# Altium integrated library TI Data Converters Analog to Digital Converter.IntLib: 2198 symbols (part 128 of 164)
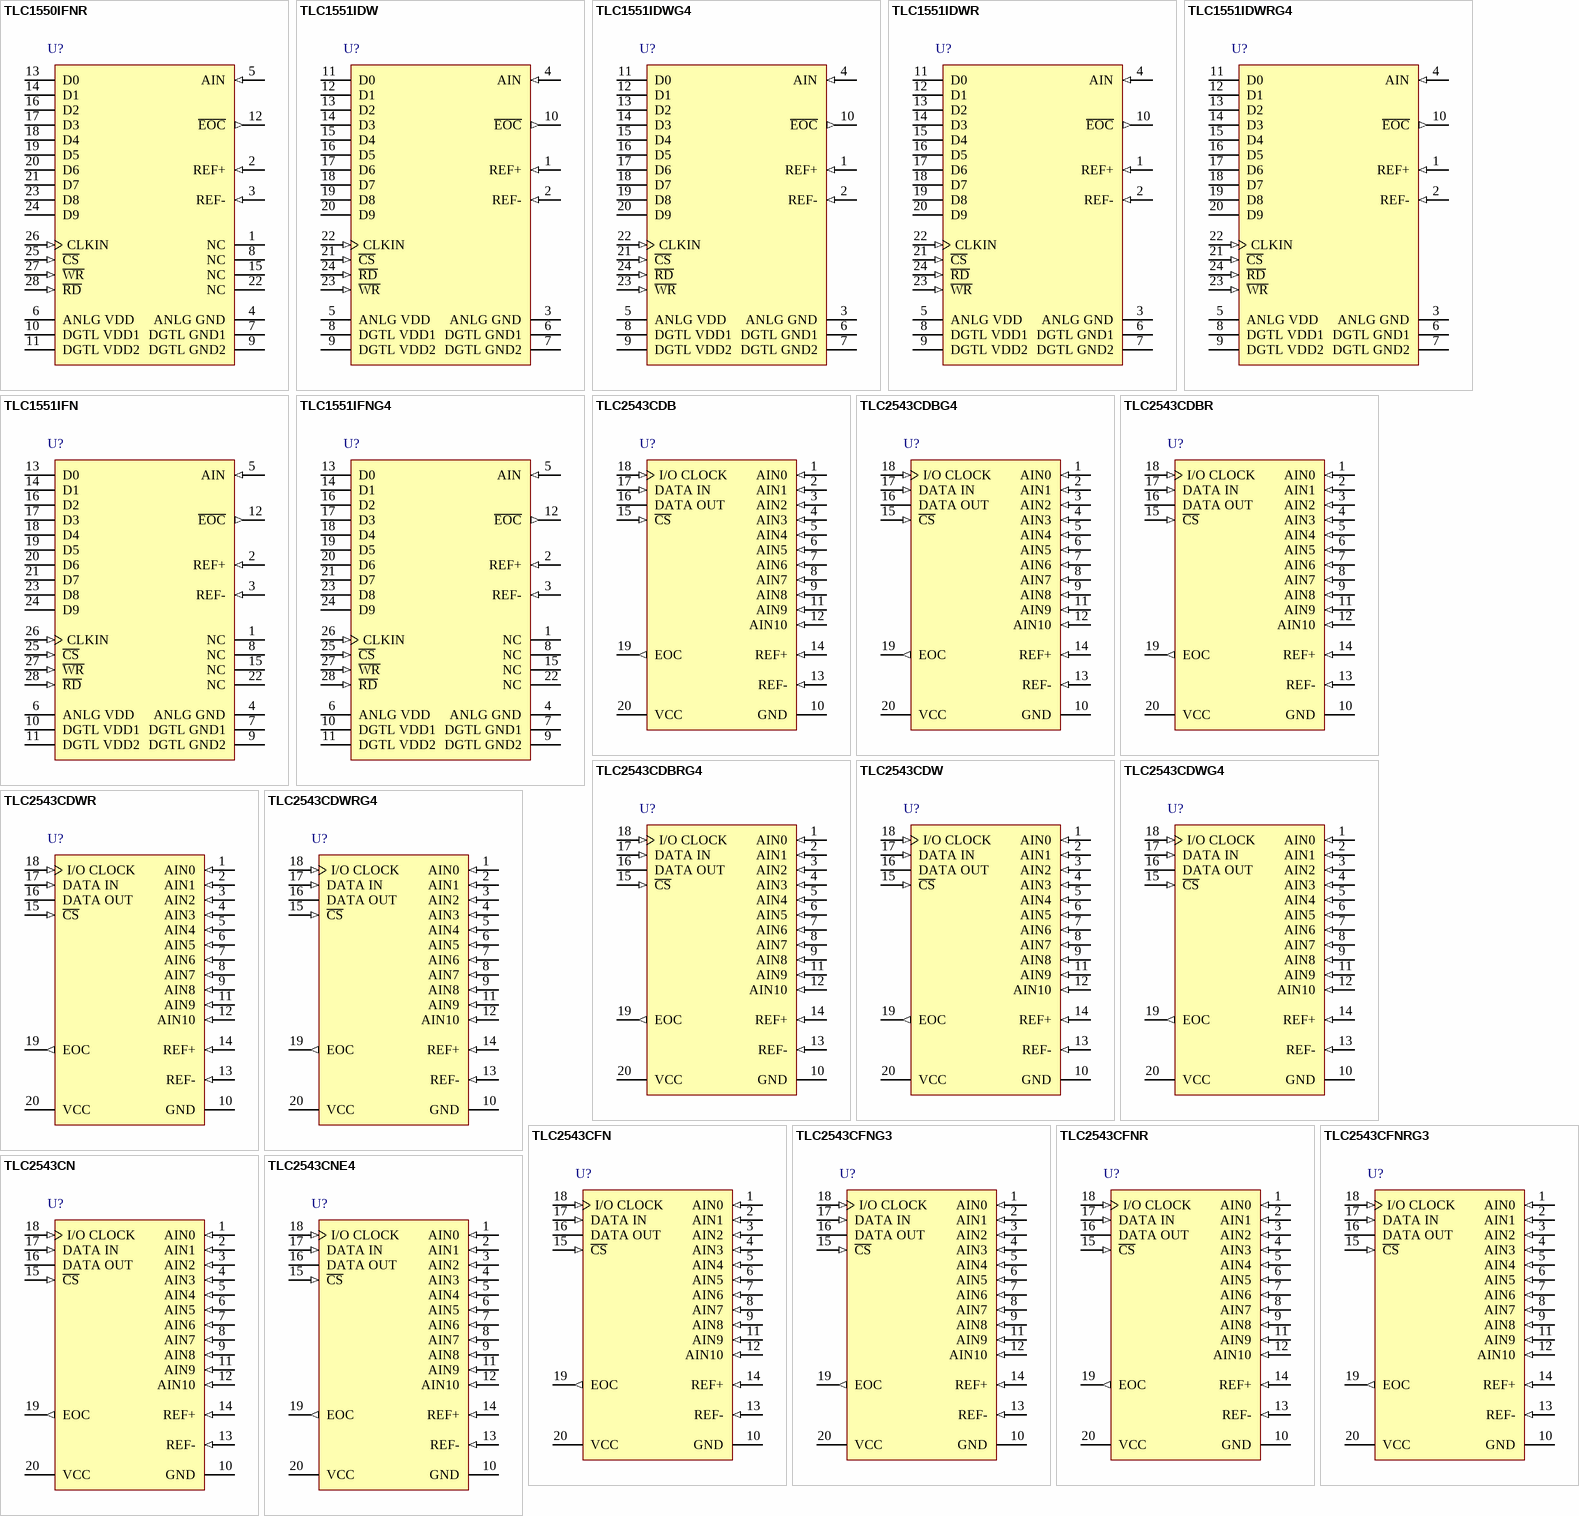
[diagram p253: symbols TLC1550IFNR to TLC2543CNE4]

## TLC1551IDWRG4
designator U?
10-Bit, 164 kSPS ADC Parallel Out, Direct I/F to DSP / uProcessor, 10 Channel, -40 to 85 degC, 24-pin SOIC (DW24), Green (RoHS & no Sb/Br); Manufacturer: Texas Instruments; PartNumber: TLC1551IDWRG4; # Input Channels: 1; Analog Voltage AV/DD(Max)(V): 5.5; Analog Voltage AV/DD(Min)(V): 4.75; Architecture: SAR; Interface: Parallel CMOS; Resolution(Bits): 10; Sample Rate (max)(SPS): 164k; SubFamily: Precision ADC (<=10MSPS); DatasheetVersion: SLAS043G; PackageVersion: 4040000-5/G, 01/2011; PackageReference: DW24; PackageDescription: 24-Pin Plastic Small Outline, Body 15.4 x 7.5 mm, Pitch 1.27 mm; Supplier 1: Digi-Key; Supplier Part Number 1: 296-24464-5-ND; Digital Supply(Max)(V): 5.5; Digital Supply(Min)(V): 4.75; Eco-Plan: Green (RoHS & no Sb/Br); INL(Max)(+/-LSB): 1; Mounting Technology: Surface Mount; Code_JEDEC: MS-013; ComponentLink1Description: Manufacturer URL; ComponentLink1URL: http://www.ti.com/; ComponentLink2Description: Datasheet; ComponentLink2URL: http://www.ti.com/general/docs/lit/getliterature.tsp?genericPartNumber=TLC1551&fileType=pdf; ComponentLink3Description: Package Specification; ComponentLink3URL: http://www.ti.com/litv/pdf/mpds174a
footprint TI-DW24_N (SOIC, 24-Leads, Body 15.4x7.5mm, Pitch 1.27mm, IPC Medium Density)
footprint TI-DW24_L (SOIC, 24-Leads, Body 15.4x7.5mm, Pitch 1.27mm, IPC High Density)
footprint TI-DW24_M (SOIC, 24-Leads, Body 15.4x7.5mm, Pitch 1.27mm, IPC Low Density)
pins: 1 REF+ (in) "Positive voltage-reference input. Any analog input that is greater than or equal to the voltage on REF+ converts to 1111111111. Analog input voltages between REF+ and REF- convert to the appropriate result in a ratiometric (See Datasheet)", 2 REF- (in) "Negative voltage reference input. Any analog input that is less than or equal to the voltage on REF- converts to 0000000000.", 3 ANLG GND (power) "Analog ground. The reference point for the voltage applied on terminals ANLG VDD, AIN, REF+, and REF-.", 4 AIN (in) "Analog voltage input. The voltage applied to AIN is converted to the equivalent digital output.", 5 ANLG VDD (power) "Analog positive power supply voltage. The voltage applied to this terminal is designated VDD3.", 6 DGTL GND1 (power) "Digital ground 1. The ground for power supply DGTL VDD1 and is the substrate connection", 7 DGTL GND2 (power) "Digital ground 2. The ground for power supply DGTL VDD2", 8 DGTL VDD1 (power) "Digital positive power-supply voltage 1. DGTL VDD1 supplies the logic. The voltage applied to DGTL VDD1 is designated VDD1.", 9 DGTL VDD2 (power) "Digital positive power-supply voltage 2. DGTL VDD2 supplies only the higher-current output buffers. The voltage applied to DGTL VDD2 is designated VDD2.", 10 ~{EOC} (out) "End-of-conversion. E\O\C\ goes low indicating that conversion is complete and the results have been transferred to the output latch. E\O\C\ can be connected to the uP- or DSP-interrupt terminal or can be continuously polled", 11 D0 (hiz) "Data bus output. D0 is bit 1 (LSB).", 12 D1 (hiz) "Data bus output. D1 is bit 2.", 13 D2 (hiz) "Data bus output. D2 is bit 3.", 14 D3 (hiz) "Data bus output. D3 is bit 4.", 15 D4 (hiz) "Data bus output. D4 is bit 5.", 16 D5 (hiz) "Data bus output. D5 is bit 6.", 17 D6 (hiz) "Data bus output. D6 is bit 7.", 18 D7 (hiz) "Data bus output. D7 is bit 8.", 19 D8 (hiz) "Data bus output. D8 is bit 9.", 20 D9 (hiz) "Data bus output. D9 is bit 10 (MSB).", 21 ~{CS} (in) "Chip-select. C\S\ must be low for R\D\ or W\R\ to be recognized by the A/D converter.", 22 CLKIN (in) "Clock input. CLKIN is used for external clocking instead of using the internal system clock. It usually takes a few microseconds before the internal clock is disabled. To use the internal clock, CLKIN should be tied high or (See Datasheet)", 23 ~{WR} (in) "Write input. When C\S\ is low, conversion is started on the rising edge of W\R\. On this rising edge, the ADC holds the analog input until conversion is completed. Before and after the conversion period, which is given by (See Datasheet)", 24 ~{RD} (in) "Read input. When C\S\ is low and R\D\ is taken low, the data is placed on the data bus from the output latch. The output latch stores the conversion results at the most recent negative edge of E\O\C\. The falling edge of (See Datasheet)"

## TLC1551IFN
designator U?
10-Bit, 164 kSPS ADC Parallel Out, Direct I/F to DSP / uProcessor, 10 Channel, -40 to 85 degC, 28-pin PLCC (FN), Green (RoHS & no Sb/Br); Manufacturer: Texas Instruments; PartNumber: TLC1551IFN; # Input Channels: 1; Analog Voltage AV/DD(Max)(V): 5.5; Analog Voltage AV/DD(Min)(V): 4.75; Architecture: SAR; Interface: Parallel CMOS; Resolution(Bits): 10; Sample Rate (max)(SPS): 164k; SubFamily: Precision ADC (<=10MSPS); DatasheetVersion: SLAS043G; PackageReference: FN28; PackageDescription: 28-Pin Plastic Chip Carrier, Body 11.51 x 11.51 mm, Pitch 1.27 mm; Supplier 1: Digi-Key; Supplier Part Number 1: TLC1543QDBR-ND; Digital Supply(Max)(V): 5.5; Digital Supply(Min)(V): 4.75; Eco-Plan: Green (RoHS & no Sb/Br); INL(Max)(+/-LSB): 1; Mounting Technology: Surface Mount; Code_JEDEC: MS-013; ComponentLink1Description: Manufacturer URL; ComponentLink1URL: http://www.ti.com/; ComponentLink2Description: Datasheet; ComponentLink2URL: http://www.ti.com/general/docs/lit/getliterature.tsp?genericPartNumber=TLC1551&fileType=pdf; ComponentLink3Description: Package Specification; ComponentLink3URL: http://www.ti.com/lit/ml/mplc004a/mplc004a.pdf
footprint TI-FN28_N (PLCC, 28-Leads, Body 11.58x11.58mm, Pitch 1.27mm, IPC Medium Density)
footprint TI-FN28_L (PLCC, 28-Leads, Body 11.58x11.58mm, Pitch 1.27mm, IPC High Density)
footprint TI-FN28_M (PLCC, 28-Leads, Body 11.58x11.58mm, Pitch 1.27mm, IPC Low Density)
pins: 1 NC "No internal connection", 2 REF+ (in) "Positive voltage-reference input. Any analog input that is greater than or equal to the voltage on REF+ converts to 1111111111. Analog input voltages between REF+ and REF- convert to the appropriate result in a ratiometric (See Datasheet)", 3 REF- (in) "Negative voltage reference input. Any analog input that is less than or equal to the voltage on REF- converts to 0000000000.", 4 ANLG GND (power) "Analog ground. The reference point for the voltage applied on terminals ANLG VDD, AIN, REF+, and REF-.", 5 AIN (in) "Analog voltage input. The voltage applied to AIN is converted to the equivalent digital output.", 6 ANLG VDD (power) "Analog positive power supply voltage. The voltage applied to this terminal is designated VDD3.", 7 DGTL GND1 (power) "Digital ground 1. The ground for power supply DGTL VDD1 and is the substrate connection", 8 NC "No internal connection", 9 DGTL GND2 (power) "Digital ground 2. The ground for power supply DGTL VDD2", 10 DGTL VDD1 (power) "Digital positive power-supply voltage 1. DGTL VDD1 supplies the logic. The voltage applied to DGTL VDD1 is designated VDD1.", 11 DGTL VDD2 (power) "Digital positive power-supply voltage 2. DGTL VDD2 supplies only the higher-current output buffers. The voltage applied to DGTL VDD2 is designated VDD2.", 12 ~{EOC} (out) "End-of-conversion. E\O\C\ goes low indicating that conversion is complete and the results have been transferred to the output latch. E\O\C\ can be connected to the uP- or DSP-interrupt terminal or can be continuously polled", 13 D0 (hiz) "Data bus output. D0 is bit 1 (LSB).", 14 D1 (hiz) "Data bus output. D1 is bit 2.", 15 NC "No internal connection", 16 D2 (hiz) "Data bus output. D2 is bit 3.", 17 D3 (hiz) "Data bus output. D3 is bit 4.", 18 D4 (hiz) "Data bus output. D4 is bit 5.", 19 D5 (hiz) "Data bus output. D5 is bit 6.", 20 D6 (hiz) "Data bus output. D6 is bit 7.", 21 D7 (hiz) "Data bus output. D7 is bit 8.", 22 NC "No internal connection", 23 D8 (hiz) "Data bus output. D8 is bit 9.", 24 D9 (hiz) "Data bus output. D9 is bit 10 (MSB).", 25 ~{CS} (in) "Chip-select. C\S\ must be low for R\D\ or W\R\ to be recognized by the A/D converter.", 26 CLKIN (in) "Clock input. CLKIN is used for external clocking instead of using the internal system clock. It usually takes a few microseconds before the internal clock is disabled. To use the internal clock, CLKIN should be tied high or (See Datasheet)", 27 ~{WR} (in) "Write input. When C\S\ is low, conversion is started on the rising edge of W\R\. On this rising edge, the ADC holds the analog input until conversion is completed. Before and after the conversion period, which is given by (See Datasheet)", 28 ~{RD} (in) "Read input. When C\S\ is low and R\D\ is taken low, the data is placed on the data bus from the output latch. The output latch stores the conversion results at the most recent negative edge of E\O\C\. The falling edge of (See Datasheet)"

## TLC1551IFNG4
designator U?
10-Bit, 164 kSPS ADC Parallel Out, Direct I/F to DSP / uProcessor, 10 Channel, -40 to 85 degC, 28-pin PLCC (FN), Green (RoHS & no Sb/Br); Manufacturer: Texas Instruments; PartNumber: TLC1551IFNG4; # Input Channels: 1; Analog Voltage AV/DD(Max)(V): 5.5; Analog Voltage AV/DD(Min)(V): 4.75; Architecture: SAR; Interface: Parallel CMOS; Resolution(Bits): 10; Sample Rate (max)(SPS): 164k; SubFamily: Precision ADC (<=10MSPS); DatasheetVersion: SLAS043G; PackageReference: FN28; PackageDescription: 28-Pin Plastic Chip Carrier, Body 11.51 x 11.51 mm, Pitch 1.27 mm; Supplier 1: Digi-Key; Supplier Part Number 1: TLC1543QDBRG4-ND; Digital Supply(Max)(V): 5.5; Digital Supply(Min)(V): 4.75; Eco-Plan: Green (RoHS & no Sb/Br); INL(Max)(+/-LSB): 1; Mounting Technology: Surface Mount; Code_JEDEC: MS-013; ComponentLink1Description: Manufacturer URL; ComponentLink1URL: http://www.ti.com/; ComponentLink2Description: Datasheet; ComponentLink2URL: http://www.ti.com/general/docs/lit/getliterature.tsp?genericPartNumber=TLC1551&fileType=pdf; ComponentLink3Description: Package Specification; ComponentLink3URL: http://www.ti.com/lit/ml/mplc004a/mplc004a.pdf
footprint TI-FN28_N (PLCC, 28-Leads, Body 11.58x11.58mm, Pitch 1.27mm, IPC Medium Density)
footprint TI-FN28_L (PLCC, 28-Leads, Body 11.58x11.58mm, Pitch 1.27mm, IPC High Density)
footprint TI-FN28_M (PLCC, 28-Leads, Body 11.58x11.58mm, Pitch 1.27mm, IPC Low Density)
pins: 1 NC "No internal connection", 2 REF+ (in) "Positive voltage-reference input. Any analog input that is greater than or equal to the voltage on REF+ converts to 1111111111. Analog input voltages between REF+ and REF- convert to the appropriate result in a ratiometric (See Datasheet)", 3 REF- (in) "Negative voltage reference input. Any analog input that is less than or equal to the voltage on REF- converts to 0000000000.", 4 ANLG GND (power) "Analog ground. The reference point for the voltage applied on terminals ANLG VDD, AIN, REF+, and REF-.", 5 AIN (in) "Analog voltage input. The voltage applied to AIN is converted to the equivalent digital output.", 6 ANLG VDD (power) "Analog positive power supply voltage. The voltage applied to this terminal is designated VDD3.", 7 DGTL GND1 (power) "Digital ground 1. The ground for power supply DGTL VDD1 and is the substrate connection", 8 NC "No internal connection", 9 DGTL GND2 (power) "Digital ground 2. The ground for power supply DGTL VDD2", 10 DGTL VDD1 (power) "Digital positive power-supply voltage 1. DGTL VDD1 supplies the logic. The voltage applied to DGTL VDD1 is designated VDD1.", 11 DGTL VDD2 (power) "Digital positive power-supply voltage 2. DGTL VDD2 supplies only the higher-current output buffers. The voltage applied to DGTL VDD2 is designated VDD2.", 12 ~{EOC} (out) "End-of-conversion. E\O\C\ goes low indicating that conversion is complete and the results have been transferred to the output latch. E\O\C\ can be connected to the uP- or DSP-interrupt terminal or can be continuously polled", 13 D0 (hiz) "Data bus output. D0 is bit 1 (LSB).", 14 D1 (hiz) "Data bus output. D1 is bit 2.", 15 NC "No internal connection", 16 D2 (hiz) "Data bus output. D2 is bit 3.", 17 D3 (hiz) "Data bus output. D3 is bit 4.", 18 D4 (hiz) "Data bus output. D4 is bit 5.", 19 D5 (hiz) "Data bus output. D5 is bit 6.", 20 D6 (hiz) "Data bus output. D6 is bit 7.", 21 D7 (hiz) "Data bus output. D7 is bit 8.", 22 NC "No internal connection", 23 D8 (hiz) "Data bus output. D8 is bit 9.", 24 D9 (hiz) "Data bus output. D9 is bit 10 (MSB).", 25 ~{CS} (in) "Chip-select. C\S\ must be low for R\D\ or W\R\ to be recognized by the A/D converter.", 26 CLKIN (in) "Clock input. CLKIN is used for external clocking instead of using the internal system clock. It usually takes a few microseconds before the internal clock is disabled. To use the internal clock, CLKIN should be tied high or (See Datasheet)", 27 ~{WR} (in) "Write input. When C\S\ is low, conversion is started on the rising edge of W\R\. On this rising edge, the ADC holds the analog input until conversion is completed. Before and after the conversion period, which is given by (See Datasheet)", 28 ~{RD} (in) "Read input. When C\S\ is low and R\D\ is taken low, the data is placed on the data bus from the output latch. The output latch stores the conversion results at the most recent negative edge of E\O\C\. The falling edge of (See Datasheet)"

## TLC2543CDB
designator U?
12-Bit 66 kSPS ADC Serial Out, Programmable MSB / LSB First, Programmable Power Down / Output Data Length, 11 Channel, 0 to 70 degC, 20-pin SOP (DB20), Green (RoHS & no Sb/Br); Manufacturer: Texas Instruments; PartNumber: TLC2543CDB; # Input Channels: 11; Analog Voltage AV/DD(Max)(V): 5.5; Analog Voltage AV/DD(Min)(V): 4.5; Architecture: SAR; INL(Max)(+/-LSB): 1; Interface: Serial SPI; Resolution(Bits): 12; Sample Rate (max)(SPS): 66k; SubFamily: Precision ADC (<=10MSPS); DatasheetVersion: SLAS079F; PackageVersion: 4040065/E, 12/2001; PackageReference: DB20; PackageDescription: 20-Pin Plastic Small Outline, Body 5.3 x 7.2 mm, Pitch 0.65 mm; Supplier 1: Digi-Key; Supplier Part Number 1: 296-2890-5-ND; Digital Supply(Max)(V): 5.5; Digital Supply(Min)(V): 4.5; Eco-Plan: Green (RoHS & no Sb/Br); Mounting Technology: Surface Mount; Code_JEDEC: MO-150; ComponentLink1Description: Manufacturer URL; ComponentLink1URL: http://www.ti.com/; ComponentLink2Description: Datasheet; ComponentLink2URL: http://www.ti.com/general/docs/lit/getliterature.tsp?genericPartNumber=TLC2543&fileType=pdf; ComponentLink3Description: Package Specification; ComponentLink3URL: http://www.ti.com/lit/ml/msso002e/msso002e.pdf
footprint TI-DB20_N (SOP, 20-Leads, Body 7.2x5.3mm, Pitch 0.65mm, IPC Medium Density)
footprint TI-DB20_L (SOP, 20-Leads, Body 7.2x5.3mm, Pitch 0.65mm, IPC High Density)
footprint TI-DB20_M (SOP, 20-Leads, Body 7.2x5.3mm, Pitch 0.65mm, IPC Low Density)
pins: 1 AIN0 (in) "Analog input. These 11 analog-signal inputs are internally multiplexed.", 2 AIN1 (in) "Analog input. These 11 analog-signal inputs are internally multiplexed.", 3 AIN2 (in) "Analog input. These 11 analog-signal inputs are internally multiplexed.", 4 AIN3 (in) "Analog input. These 11 analog-signal inputs are internally multiplexed.", 5 AIN4 (in) "Analog input. These 11 analog-signal inputs are internally multiplexed.", 6 AIN5 (in) "Analog input. These 11 analog-signal inputs are internally multiplexed.", 7 AIN6 (in) "Analog input. These 11 analog-signal inputs are internally multiplexed.", 8 AIN7 (in) "Analog input. These 11 analog-signal inputs are internally multiplexed.", 9 AIN8 (in) "Analog input. These 11 analog-signal inputs are internally multiplexed.", 10 GND (power) "Ground. GND is the ground return terminal for the internal circuitry. Unless otherwise noted, all voltage measurements are with respect to GND.", 11 AIN9 (in) "Analog input. These 11 analog-signal inputs are internally multiplexed.", 12 AIN10 (in) "Analog input. These 11 analog-signal inputs are internally multiplexed.", 13 REF- (in) "Negative reference voltage. The lower reference voltage value (nominally ground) is applied to REF-. This pin is connected to analog ground (GND of the ADC) when internal reference is used.", 14 REF+ (in) "Positive reference voltage The upper reference voltage value (nominally VCC) is applied to REF+. The maximum analog input voltage range is determined by the difference between the voltage applied to terminals REF+ and REF-.", 15 ~{CS} (in) "Chip select. A high-to-low transition on C\S\ resets the internal counters and controls and enables DATA OUT, DATA IN, and I/O CLOCK. A low-to-high transition disables DATA IN and I/O CLOCK within a setup time.", 16 DATA OUT (hiz) "The 3-state serial output for the A/D conversion result. DATA OUT is in the high-impedance state when C\S\ is high and active when C\S\ is low. With a valid C\S\, DATA OUT is removed from the high-impedance state and is (See Datasheet)", 17 DATA IN (in) "Serial data input. The 4-bit serial data can be used as address selects the desired analog input channel or test voltage to be converted next, or a command to activate other other features. The input data is presented with (See Datasheet)", 18 I/O CLOCK (in) "Input /output clock. I/O CLOCK receives the serial input and performs the following four functions:", 19 EOC (out) "Status output, used to indicate the end of conversion (EOC) to the host processor. EOC goes from a high to a low logic level after the falling edge of the last I/O CLOCK and remains low until the conversion is complete and (See Datasheet)", 20 VCC (power) "Positive supply voltage"

## TLC2543CDBG4
designator U?
12-Bit 66 kSPS ADC Serial Out, Programmable MSB / LSB First, Programmable Power Down / Output Data Length, 11 Channel, 0 to 70 degC, 20-pin SOP (DB20), Green (RoHS & no Sb/Br); Manufacturer: Texas Instruments; PartNumber: TLC2543CDBG4; # Input Channels: 11; Analog Voltage AV/DD(Max)(V): 5.5; Analog Voltage AV/DD(Min)(V): 4.5; Architecture: SAR; INL(Max)(+/-LSB): 1; Interface: Serial SPI; Resolution(Bits): 12; Sample Rate (max)(SPS): 66k; SubFamily: Precision ADC (<=10MSPS); DatasheetVersion: SLAS079F; PackageVersion: 4040065/E, 12/2001; PackageReference: DB20; PackageDescription: 20-Pin Plastic Small Outline, Body 5.3 x 7.2 mm, Pitch 0.65 mm; Supplier 1: Digi-Key; Supplier Part Number 1: TLC1543QDWG4-ND; Digital Supply(Max)(V): 5.5; Digital Supply(Min)(V): 4.5; Eco-Plan: Green (RoHS & no Sb/Br); Mounting Technology: Surface Mount; Code_JEDEC: MO-150; ComponentLink1Description: Manufacturer URL; ComponentLink1URL: http://www.ti.com/; ComponentLink2Description: Datasheet; ComponentLink2URL: http://www.ti.com/general/docs/lit/getliterature.tsp?genericPartNumber=TLC2543&fileType=pdf; ComponentLink3Description: Package Specification; ComponentLink3URL: http://www.ti.com/lit/ml/msso002e/msso002e.pdf
footprint TI-DB20_N (SOP, 20-Leads, Body 7.2x5.3mm, Pitch 0.65mm, IPC Medium Density)
footprint TI-DB20_L (SOP, 20-Leads, Body 7.2x5.3mm, Pitch 0.65mm, IPC High Density)
footprint TI-DB20_M (SOP, 20-Leads, Body 7.2x5.3mm, Pitch 0.65mm, IPC Low Density)
pins: 1 AIN0 (in) "Analog input. These 11 analog-signal inputs are internally multiplexed.", 2 AIN1 (in) "Analog input. These 11 analog-signal inputs are internally multiplexed.", 3 AIN2 (in) "Analog input. These 11 analog-signal inputs are internally multiplexed.", 4 AIN3 (in) "Analog input. These 11 analog-signal inputs are internally multiplexed.", 5 AIN4 (in) "Analog input. These 11 analog-signal inputs are internally multiplexed.", 6 AIN5 (in) "Analog input. These 11 analog-signal inputs are internally multiplexed.", 7 AIN6 (in) "Analog input. These 11 analog-signal inputs are internally multiplexed.", 8 AIN7 (in) "Analog input. These 11 analog-signal inputs are internally multiplexed.", 9 AIN8 (in) "Analog input. These 11 analog-signal inputs are internally multiplexed.", 10 GND (power) "Ground. GND is the ground return terminal for the internal circuitry. Unless otherwise noted, all voltage measurements are with respect to GND.", 11 AIN9 (in) "Analog input. These 11 analog-signal inputs are internally multiplexed.", 12 AIN10 (in) "Analog input. These 11 analog-signal inputs are internally multiplexed.", 13 REF- (in) "Negative reference voltage. The lower reference voltage value (nominally ground) is applied to REF-. This pin is connected to analog ground (GND of the ADC) when internal reference is used.", 14 REF+ (in) "Positive reference voltage The upper reference voltage value (nominally VCC) is applied to REF+. The maximum analog input voltage range is determined by the difference between the voltage applied to terminals REF+ and REF-.", 15 ~{CS} (in) "Chip select. A high-to-low transition on C\S\ resets the internal counters and controls and enables DATA OUT, DATA IN, and I/O CLOCK. A low-to-high transition disables DATA IN and I/O CLOCK within a setup time.", 16 DATA OUT (hiz) "The 3-state serial output for the A/D conversion result. DATA OUT is in the high-impedance state when C\S\ is high and active when C\S\ is low. With a valid C\S\, DATA OUT is removed from the high-impedance state and is (See Datasheet)", 17 DATA IN (in) "Serial data input. The 4-bit serial data can be used as address selects the desired analog input channel or test voltage to be converted next, or a command to activate other other features. The input data is presented with (See Datasheet)", 18 I/O CLOCK (in) "Input /output clock. I/O CLOCK receives the serial input and performs the following four functions:", 19 EOC (out) "Status output, used to indicate the end of conversion (EOC) to the host processor. EOC goes from a high to a low logic level after the falling edge of the last I/O CLOCK and remains low until the conversion is complete and (See Datasheet)", 20 VCC (power) "Positive supply voltage"

## TLC2543CDBR
designator U?
12-Bit 66 kSPS ADC Serial Out, Programmable MSB / LSB First, Programmable Power Down / Output Data Length, 11 Channel, 0 to 70 degC, 20-pin SOP (DB20), Green (RoHS & no Sb/Br); Manufacturer: Texas Instruments; PartNumber: TLC2543CDBR; # Input Channels: 11; Analog Voltage AV/DD(Max)(V): 5.5; Analog Voltage AV/DD(Min)(V): 4.5; Architecture: SAR; INL(Max)(+/-LSB): 1; Interface: Serial SPI; Resolution(Bits): 12; Sample Rate (max)(SPS): 66k; SubFamily: Precision ADC (<=10MSPS); DatasheetVersion: SLAS079F; PackageVersion: 4040065/E, 12/2001; PackageReference: DB20; PackageDescription: 20-Pin Plastic Small Outline, Body 5.3 x 7.2 mm, Pitch 0.65 mm; Supplier 1: Digi-Key; Supplier Part Number 1: TLC1543QDWR-ND; Digital Supply(Max)(V): 5.5; Digital Supply(Min)(V): 4.5; Eco-Plan: Green (RoHS & no Sb/Br); Mounting Technology: Surface Mount; Code_JEDEC: MO-150; ComponentLink1Description: Manufacturer URL; ComponentLink1URL: http://www.ti.com/; ComponentLink2Description: Datasheet; ComponentLink2URL: http://www.ti.com/general/docs/lit/getliterature.tsp?genericPartNumber=TLC2543&fileType=pdf; ComponentLink3Description: Package Specification; ComponentLink3URL: http://www.ti.com/lit/ml/msso002e/msso002e.pdf
footprint TI-DB20_N (SOP, 20-Leads, Body 7.2x5.3mm, Pitch 0.65mm, IPC Medium Density)
footprint TI-DB20_L (SOP, 20-Leads, Body 7.2x5.3mm, Pitch 0.65mm, IPC High Density)
footprint TI-DB20_M (SOP, 20-Leads, Body 7.2x5.3mm, Pitch 0.65mm, IPC Low Density)
pins: 1 AIN0 (in) "Analog input. These 11 analog-signal inputs are internally multiplexed.", 2 AIN1 (in) "Analog input. These 11 analog-signal inputs are internally multiplexed.", 3 AIN2 (in) "Analog input. These 11 analog-signal inputs are internally multiplexed.", 4 AIN3 (in) "Analog input. These 11 analog-signal inputs are internally multiplexed.", 5 AIN4 (in) "Analog input. These 11 analog-signal inputs are internally multiplexed.", 6 AIN5 (in) "Analog input. These 11 analog-signal inputs are internally multiplexed.", 7 AIN6 (in) "Analog input. These 11 analog-signal inputs are internally multiplexed.", 8 AIN7 (in) "Analog input. These 11 analog-signal inputs are internally multiplexed.", 9 AIN8 (in) "Analog input. These 11 analog-signal inputs are internally multiplexed.", 10 GND (power) "Ground. GND is the ground return terminal for the internal circuitry. Unless otherwise noted, all voltage measurements are with respect to GND.", 11 AIN9 (in) "Analog input. These 11 analog-signal inputs are internally multiplexed.", 12 AIN10 (in) "Analog input. These 11 analog-signal inputs are internally multiplexed.", 13 REF- (in) "Negative reference voltage. The lower reference voltage value (nominally ground) is applied to REF-. This pin is connected to analog ground (GND of the ADC) when internal reference is used.", 14 REF+ (in) "Positive reference voltage The upper reference voltage value (nominally VCC) is applied to REF+. The maximum analog input voltage range is determined by the difference between the voltage applied to terminals REF+ and REF-.", 15 ~{CS} (in) "Chip select. A high-to-low transition on C\S\ resets the internal counters and controls and enables DATA OUT, DATA IN, and I/O CLOCK. A low-to-high transition disables DATA IN and I/O CLOCK within a setup time.", 16 DATA OUT (hiz) "The 3-state serial output for the A/D conversion result. DATA OUT is in the high-impedance state when C\S\ is high and active when C\S\ is low. With a valid C\S\, DATA OUT is removed from the high-impedance state and is (See Datasheet)", 17 DATA IN (in) "Serial data input. The 4-bit serial data can be used as address selects the desired analog input channel or test voltage to be converted next, or a command to activate other other features. The input data is presented with (See Datasheet)", 18 I/O CLOCK (in) "Input /output clock. I/O CLOCK receives the serial input and performs the following four functions:", 19 EOC (out) "Status output, used to indicate the end of conversion (EOC) to the host processor. EOC goes from a high to a low logic level after the falling edge of the last I/O CLOCK and remains low until the conversion is complete and (See Datasheet)", 20 VCC (power) "Positive supply voltage"

## TLC2543CDBRG4
designator U?
12-Bit 66 kSPS ADC Serial Out, Programmable MSB / LSB First, Programmable Power Down / Output Data Length, 11 Channel, 0 to 70 degC, 20-pin SOP (DB20), Green (RoHS & no Sb/Br); Manufacturer: Texas Instruments; PartNumber: TLC2543CDBRG4; # Input Channels: 11; Analog Voltage AV/DD(Max)(V): 5.5; Analog Voltage AV/DD(Min)(V): 4.5; Architecture: SAR; INL(Max)(+/-LSB): 1; Interface: Serial SPI; Resolution(Bits): 12; Sample Rate (max)(SPS): 66k; SubFamily: Precision ADC (<=10MSPS); DatasheetVersion: SLAS079F; PackageVersion: 4040065/E, 12/2001; PackageReference: DB20; PackageDescription: 20-Pin Plastic Small Outline, Body 5.3 x 7.2 mm, Pitch 0.65 mm; Supplier 1: Digi-Key; Supplier Part Number 1: TLC1543QDWRG4-ND; Digital Supply(Max)(V): 5.5; Digital Supply(Min)(V): 4.5; Eco-Plan: Green (RoHS & no Sb/Br); Mounting Technology: Surface Mount; Code_JEDEC: MO-150; ComponentLink1Description: Manufacturer URL; ComponentLink1URL: http://www.ti.com/; ComponentLink2Description: Datasheet; ComponentLink2URL: http://www.ti.com/general/docs/lit/getliterature.tsp?genericPartNumber=TLC2543&fileType=pdf; ComponentLink3Description: Package Specification; ComponentLink3URL: http://www.ti.com/lit/ml/msso002e/msso002e.pdf
footprint TI-DB20_N (SOP, 20-Leads, Body 7.2x5.3mm, Pitch 0.65mm, IPC Medium Density)
footprint TI-DB20_L (SOP, 20-Leads, Body 7.2x5.3mm, Pitch 0.65mm, IPC High Density)
footprint TI-DB20_M (SOP, 20-Leads, Body 7.2x5.3mm, Pitch 0.65mm, IPC Low Density)
pins: 1 AIN0 (in) "Analog input. These 11 analog-signal inputs are internally multiplexed.", 2 AIN1 (in) "Analog input. These 11 analog-signal inputs are internally multiplexed.", 3 AIN2 (in) "Analog input. These 11 analog-signal inputs are internally multiplexed.", 4 AIN3 (in) "Analog input. These 11 analog-signal inputs are internally multiplexed.", 5 AIN4 (in) "Analog input. These 11 analog-signal inputs are internally multiplexed.", 6 AIN5 (in) "Analog input. These 11 analog-signal inputs are internally multiplexed.", 7 AIN6 (in) "Analog input. These 11 analog-signal inputs are internally multiplexed.", 8 AIN7 (in) "Analog input. These 11 analog-signal inputs are internally multiplexed.", 9 AIN8 (in) "Analog input. These 11 analog-signal inputs are internally multiplexed.", 10 GND (power) "Ground. GND is the ground return terminal for the internal circuitry. Unless otherwise noted, all voltage measurements are with respect to GND.", 11 AIN9 (in) "Analog input. These 11 analog-signal inputs are internally multiplexed.", 12 AIN10 (in) "Analog input. These 11 analog-signal inputs are internally multiplexed.", 13 REF- (in) "Negative reference voltage. The lower reference voltage value (nominally ground) is applied to REF-. This pin is connected to analog ground (GND of the ADC) when internal reference is used.", 14 REF+ (in) "Positive reference voltage The upper reference voltage value (nominally VCC) is applied to REF+. The maximum analog input voltage range is determined by the difference between the voltage applied to terminals REF+ and REF-.", 15 ~{CS} (in) "Chip select. A high-to-low transition on C\S\ resets the internal counters and controls and enables DATA OUT, DATA IN, and I/O CLOCK. A low-to-high transition disables DATA IN and I/O CLOCK within a setup time.", 16 DATA OUT (hiz) "The 3-state serial output for the A/D conversion result. DATA OUT is in the high-impedance state when C\S\ is high and active when C\S\ is low. With a valid C\S\, DATA OUT is removed from the high-impedance state and is (See Datasheet)", 17 DATA IN (in) "Serial data input. The 4-bit serial data can be used as address selects the desired analog input channel or test voltage to be converted next, or a command to activate other other features. The input data is presented with (See Datasheet)", 18 I/O CLOCK (in) "Input /output clock. I/O CLOCK receives the serial input and performs the following four functions:", 19 EOC (out) "Status output, used to indicate the end of conversion (EOC) to the host processor. EOC goes from a high to a low logic level after the falling edge of the last I/O CLOCK and remains low until the conversion is complete and (See Datasheet)", 20 VCC (power) "Positive supply voltage"

## TLC2543CDW
designator U?
12-Bit 66 kSPS ADC Serial Out, Programmable MSB / LSB First, Programmable Power Down / Output Data Length, 11 Channel, 0 to 70 degC, 20-pin SOIC (DW20), Green (RoHS & no Sb/Br); Manufacturer: Texas Instruments; PartNumber: TLC2543CDW; # Input Channels: 11; Analog Voltage AV/DD(Max)(V): 5.5; Analog Voltage AV/DD(Min)(V): 4.5; Architecture: SAR; INL(Max)(+/-LSB): 1; Interface: Serial SPI; Resolution(Bits): 12; Sample Rate (max)(SPS): 66k; SubFamily: Precision ADC (<=10MSPS); DatasheetVersion: SLAS079F; PackageVersion: 4040000-4/G, 01/2011; PackageReference: DW20; PackageDescription: 20-Pin Plastic Small Outline, Body 12.8 x 7.5 mm, Pitch 1.27 mm; Supplier 1: Digi-Key; Supplier Part Number 1: 296-2891-5-ND; Digital Supply(Max)(V): 5.5; Digital Supply(Min)(V): 4.5; Eco-Plan: Green (RoHS & no Sb/Br); Mounting Technology: Surface Mount; Code_JEDEC: MO-013; ComponentLink1Description: Manufacturer URL; ComponentLink1URL: http://www.ti.com/; ComponentLink2Description: Datasheet; ComponentLink2URL: http://www.ti.com/general/docs/lit/getliterature.tsp?genericPartNumber=TLC2543&fileType=pdf; ComponentLink3Description: Package Specification; ComponentLink3URL: http://www.ti.com/lit/ml/mpds173a/mpds173a.pdf
footprint TI-DW20_N (SOIC, 20-Leads, Body 12.8x7.5mm, Pitch 1.27mm, IPC Medium Density)
footprint TI-DW20_L (SOIC, 20-Leads, Body 12.8x7.5mm, Pitch 1.27mm, IPC High Density)
footprint TI-DW20_M (SOIC, 20-Leads, Body 12.8x7.5mm, Pitch 1.27mm, IPC Low Density)
pins: 1 AIN0 (in) "Analog input. These 11 analog-signal inputs are internally multiplexed.", 2 AIN1 (in) "Analog input. These 11 analog-signal inputs are internally multiplexed.", 3 AIN2 (in) "Analog input. These 11 analog-signal inputs are internally multiplexed.", 4 AIN3 (in) "Analog input. These 11 analog-signal inputs are internally multiplexed.", 5 AIN4 (in) "Analog input. These 11 analog-signal inputs are internally multiplexed.", 6 AIN5 (in) "Analog input. These 11 analog-signal inputs are internally multiplexed.", 7 AIN6 (in) "Analog input. These 11 analog-signal inputs are internally multiplexed.", 8 AIN7 (in) "Analog input. These 11 analog-signal inputs are internally multiplexed.", 9 AIN8 (in) "Analog input. These 11 analog-signal inputs are internally multiplexed.", 10 GND (power) "Ground. GND is the ground return terminal for the internal circuitry. Unless otherwise noted, all voltage measurements are with respect to GND.", 11 AIN9 (in) "Analog input. These 11 analog-signal inputs are internally multiplexed.", 12 AIN10 (in) "Analog input. These 11 analog-signal inputs are internally multiplexed.", 13 REF- (in) "Negative reference voltage. The lower reference voltage value (nominally ground) is applied to REF-. This pin is connected to analog ground (GND of the ADC) when internal reference is used.", 14 REF+ (in) "Positive reference voltage The upper reference voltage value (nominally VCC) is applied to REF+. The maximum analog input voltage range is determined by the difference between the voltage applied to terminals REF+ and REF-.", 15 ~{CS} (in) "Chip select. A high-to-low transition on C\S\ resets the internal counters and controls and enables DATA OUT, DATA IN, and I/O CLOCK. A low-to-high transition disables DATA IN and I/O CLOCK within a setup time.", 16 DATA OUT (hiz) "The 3-state serial output for the A/D conversion result. DATA OUT is in the high-impedance state when C\S\ is high and active when C\S\ is low. With a valid C\S\, DATA OUT is removed from the high-impedance state and is (See Datasheet)", 17 DATA IN (in) "Serial data input. The 4-bit serial data can be used as address selects the desired analog input channel or test voltage to be converted next, or a command to activate other other features. The input data is presented with (See Datasheet)", 18 I/O CLOCK (in) "Input /output clock. I/O CLOCK receives the serial input and performs the following four functions:", 19 EOC (out) "Status output, used to indicate the end of conversion (EOC) to the host processor. EOC goes from a high to a low logic level after the falling edge of the last I/O CLOCK and remains low until the conversion is complete and (See Datasheet)", 20 VCC (power) "Positive supply voltage"

## TLC2543CDWG4
designator U?
12-Bit 66 kSPS ADC Serial Out, Programmable MSB / LSB First, Programmable Power Down / Output Data Length, 11 Channel, 0 to 70 degC, 20-pin SOIC (DW20), Green (RoHS & no Sb/Br); Manufacturer: Texas Instruments; PartNumber: TLC2543CDWG4; # Input Channels: 11; Analog Voltage AV/DD(Max)(V): 5.5; Analog Voltage AV/DD(Min)(V): 4.5; Architecture: SAR; INL(Max)(+/-LSB): 1; Interface: Serial SPI; Resolution(Bits): 12; Sample Rate (max)(SPS): 66k; SubFamily: Precision ADC (<=10MSPS); DatasheetVersion: SLAS079F; PackageVersion: 4040000-4/G, 01/2011; PackageReference: DW20; PackageDescription: 20-Pin Plastic Small Outline, Body 12.8 x 7.5 mm, Pitch 1.27 mm; Supplier 1: Digi-Key; Supplier Part Number 1: 296-2892-5-ND; Digital Supply(Max)(V): 5.5; Digital Supply(Min)(V): 4.5; Eco-Plan: Green (RoHS & no Sb/Br); Mounting Technology: Surface Mount; Code_JEDEC: MO-013; ComponentLink1Description: Manufacturer URL; ComponentLink1URL: http://www.ti.com/; ComponentLink2Description: Datasheet; ComponentLink2URL: http://www.ti.com/general/docs/lit/getliterature.tsp?genericPartNumber=TLC2543&fileType=pdf; ComponentLink3Description: Package Specification; ComponentLink3URL: http://www.ti.com/lit/ml/mpds173a/mpds173a.pdf
footprint TI-DW20_N (SOIC, 20-Leads, Body 12.8x7.5mm, Pitch 1.27mm, IPC Medium Density)
footprint TI-DW20_L (SOIC, 20-Leads, Body 12.8x7.5mm, Pitch 1.27mm, IPC High Density)
footprint TI-DW20_M (SOIC, 20-Leads, Body 12.8x7.5mm, Pitch 1.27mm, IPC Low Density)
pins: 1 AIN0 (in) "Analog input. These 11 analog-signal inputs are internally multiplexed.", 2 AIN1 (in) "Analog input. These 11 analog-signal inputs are internally multiplexed.", 3 AIN2 (in) "Analog input. These 11 analog-signal inputs are internally multiplexed.", 4 AIN3 (in) "Analog input. These 11 analog-signal inputs are internally multiplexed.", 5 AIN4 (in) "Analog input. These 11 analog-signal inputs are internally multiplexed.", 6 AIN5 (in) "Analog input. These 11 analog-signal inputs are internally multiplexed.", 7 AIN6 (in) "Analog input. These 11 analog-signal inputs are internally multiplexed.", 8 AIN7 (in) "Analog input. These 11 analog-signal inputs are internally multiplexed.", 9 AIN8 (in) "Analog input. These 11 analog-signal inputs are internally multiplexed.", 10 GND (power) "Ground. GND is the ground return terminal for the internal circuitry. Unless otherwise noted, all voltage measurements are with respect to GND.", 11 AIN9 (in) "Analog input. These 11 analog-signal inputs are internally multiplexed.", 12 AIN10 (in) "Analog input. These 11 analog-signal inputs are internally multiplexed.", 13 REF- (in) "Negative reference voltage. The lower reference voltage value (nominally ground) is applied to REF-. This pin is connected to analog ground (GND of the ADC) when internal reference is used.", 14 REF+ (in) "Positive reference voltage The upper reference voltage value (nominally VCC) is applied to REF+. The maximum analog input voltage range is determined by the difference between the voltage applied to terminals REF+ and REF-.", 15 ~{CS} (in) "Chip select. A high-to-low transition on C\S\ resets the internal counters and controls and enables DATA OUT, DATA IN, and I/O CLOCK. A low-to-high transition disables DATA IN and I/O CLOCK within a setup time.", 16 DATA OUT (hiz) "The 3-state serial output for the A/D conversion result. DATA OUT is in the high-impedance state when C\S\ is high and active when C\S\ is low. With a valid C\S\, DATA OUT is removed from the high-impedance state and is (See Datasheet)", 17 DATA IN (in) "Serial data input. The 4-bit serial data can be used as address selects the desired analog input channel or test voltage to be converted next, or a command to activate other other features. The input data is presented with (See Datasheet)", 18 I/O CLOCK (in) "Input /output clock. I/O CLOCK receives the serial input and performs the following four functions:", 19 EOC (out) "Status output, used to indicate the end of conversion (EOC) to the host processor. EOC goes from a high to a low logic level after the falling edge of the last I/O CLOCK and remains low until the conversion is complete and (See Datasheet)", 20 VCC (power) "Positive supply voltage"

## TLC2543CDWR
designator U?
12-Bit 66 kSPS ADC Serial Out, Programmable MSB / LSB First, Programmable Power Down / Output Data Length, 11 Channel, 0 to 70 degC, 20-pin SOIC (DW20), Green (RoHS & no Sb/Br); Manufacturer: Texas Instruments; PartNumber: TLC2543CDWR; # Input Channels: 11; Analog Voltage AV/DD(Max)(V): 5.5; Analog Voltage AV/DD(Min)(V): 4.5; Architecture: SAR; INL(Max)(+/-LSB): 1; Interface: Serial SPI; Resolution(Bits): 12; Sample Rate (max)(SPS): 66k; SubFamily: Precision ADC (<=10MSPS); DatasheetVersion: SLAS079F; PackageVersion: 4040000-4/G, 01/2011; PackageReference: DW20; PackageDescription: 20-Pin Plastic Small Outline, Body 12.8 x 7.5 mm, Pitch 1.27 mm; Supplier 1: Digi-Key; Supplier Part Number 1: TLC1549CDG4-ND; Digital Supply(Max)(V): 5.5; Digital Supply(Min)(V): 4.5; Eco-Plan: Green (RoHS & no Sb/Br); Mounting Technology: Surface Mount; Code_JEDEC: MO-013; ComponentLink1Description: Manufacturer URL; ComponentLink1URL: http://www.ti.com/; ComponentLink2Description: Datasheet; ComponentLink2URL: http://www.ti.com/general/docs/lit/getliterature.tsp?genericPartNumber=TLC2543&fileType=pdf; ComponentLink3Description: Package Specification; ComponentLink3URL: http://www.ti.com/lit/ml/mpds173a/mpds173a.pdf
footprint TI-DW20_N (SOIC, 20-Leads, Body 12.8x7.5mm, Pitch 1.27mm, IPC Medium Density)
footprint TI-DW20_L (SOIC, 20-Leads, Body 12.8x7.5mm, Pitch 1.27mm, IPC High Density)
footprint TI-DW20_M (SOIC, 20-Leads, Body 12.8x7.5mm, Pitch 1.27mm, IPC Low Density)
pins: 1 AIN0 (in) "Analog input. These 11 analog-signal inputs are internally multiplexed.", 2 AIN1 (in) "Analog input. These 11 analog-signal inputs are internally multiplexed.", 3 AIN2 (in) "Analog input. These 11 analog-signal inputs are internally multiplexed.", 4 AIN3 (in) "Analog input. These 11 analog-signal inputs are internally multiplexed.", 5 AIN4 (in) "Analog input. These 11 analog-signal inputs are internally multiplexed.", 6 AIN5 (in) "Analog input. These 11 analog-signal inputs are internally multiplexed.", 7 AIN6 (in) "Analog input. These 11 analog-signal inputs are internally multiplexed.", 8 AIN7 (in) "Analog input. These 11 analog-signal inputs are internally multiplexed.", 9 AIN8 (in) "Analog input. These 11 analog-signal inputs are internally multiplexed.", 10 GND (power) "Ground. GND is the ground return terminal for the internal circuitry. Unless otherwise noted, all voltage measurements are with respect to GND.", 11 AIN9 (in) "Analog input. These 11 analog-signal inputs are internally multiplexed.", 12 AIN10 (in) "Analog input. These 11 analog-signal inputs are internally multiplexed.", 13 REF- (in) "Negative reference voltage. The lower reference voltage value (nominally ground) is applied to REF-. This pin is connected to analog ground (GND of the ADC) when internal reference is used.", 14 REF+ (in) "Positive reference voltage The upper reference voltage value (nominally VCC) is applied to REF+. The maximum analog input voltage range is determined by the difference between the voltage applied to terminals REF+ and REF-.", 15 ~{CS} (in) "Chip select. A high-to-low transition on C\S\ resets the internal counters and controls and enables DATA OUT, DATA IN, and I/O CLOCK. A low-to-high transition disables DATA IN and I/O CLOCK within a setup time.", 16 DATA OUT (hiz) "The 3-state serial output for the A/D conversion result. DATA OUT is in the high-impedance state when C\S\ is high and active when C\S\ is low. With a valid C\S\, DATA OUT is removed from the high-impedance state and is (See Datasheet)", 17 DATA IN (in) "Serial data input. The 4-bit serial data can be used as address selects the desired analog input channel or test voltage to be converted next, or a command to activate other other features. The input data is presented with (See Datasheet)", 18 I/O CLOCK (in) "Input /output clock. I/O CLOCK receives the serial input and performs the following four functions:", 19 EOC (out) "Status output, used to indicate the end of conversion (EOC) to the host processor. EOC goes from a high to a low logic level after the falling edge of the last I/O CLOCK and remains low until the conversion is complete and (See Datasheet)", 20 VCC (power) "Positive supply voltage"

## TLC2543CDWRG4
designator U?
12-Bit 66 kSPS ADC Serial Out, Programmable MSB / LSB First, Programmable Power Down / Output Data Length, 11 Channel, 0 to 70 degC, 20-pin SOIC (DW20), Green (RoHS & no Sb/Br); Manufacturer: Texas Instruments; PartNumber: TLC2543CDWRG4; # Input Channels: 11; Analog Voltage AV/DD(Max)(V): 5.5; Analog Voltage AV/DD(Min)(V): 4.5; Architecture: SAR; INL(Max)(+/-LSB): 1; Interface: Serial SPI; Resolution(Bits): 12; Sample Rate (max)(SPS): 66k; SubFamily: Precision ADC (<=10MSPS); DatasheetVersion: SLAS079F; PackageVersion: 4040000-4/G, 01/2011; PackageReference: DW20; PackageDescription: 20-Pin Plastic Small Outline, Body 12.8 x 7.5 mm, Pitch 1.27 mm; Supplier 1: Digi-Key; Supplier Part Number 1: TLC1549CDR-ND; Digital Supply(Max)(V): 5.5; Digital Supply(Min)(V): 4.5; Eco-Plan: Green (RoHS & no Sb/Br); Mounting Technology: Surface Mount; Code_JEDEC: MO-013; ComponentLink1Description: Manufacturer URL; ComponentLink1URL: http://www.ti.com/; ComponentLink2Description: Datasheet; ComponentLink2URL: http://www.ti.com/general/docs/lit/getliterature.tsp?genericPartNumber=TLC2543&fileType=pdf; ComponentLink3Description: Package Specification; ComponentLink3URL: http://www.ti.com/lit/ml/mpds173a/mpds173a.pdf
footprint TI-DW20_N (SOIC, 20-Leads, Body 12.8x7.5mm, Pitch 1.27mm, IPC Medium Density)
footprint TI-DW20_L (SOIC, 20-Leads, Body 12.8x7.5mm, Pitch 1.27mm, IPC High Density)
footprint TI-DW20_M (SOIC, 20-Leads, Body 12.8x7.5mm, Pitch 1.27mm, IPC Low Density)
pins: 1 AIN0 (in) "Analog input. These 11 analog-signal inputs are internally multiplexed.", 2 AIN1 (in) "Analog input. These 11 analog-signal inputs are internally multiplexed.", 3 AIN2 (in) "Analog input. These 11 analog-signal inputs are internally multiplexed.", 4 AIN3 (in) "Analog input. These 11 analog-signal inputs are internally multiplexed.", 5 AIN4 (in) "Analog input. These 11 analog-signal inputs are internally multiplexed.", 6 AIN5 (in) "Analog input. These 11 analog-signal inputs are internally multiplexed.", 7 AIN6 (in) "Analog input. These 11 analog-signal inputs are internally multiplexed.", 8 AIN7 (in) "Analog input. These 11 analog-signal inputs are internally multiplexed.", 9 AIN8 (in) "Analog input. These 11 analog-signal inputs are internally multiplexed.", 10 GND (power) "Ground. GND is the ground return terminal for the internal circuitry. Unless otherwise noted, all voltage measurements are with respect to GND.", 11 AIN9 (in) "Analog input. These 11 analog-signal inputs are internally multiplexed.", 12 AIN10 (in) "Analog input. These 11 analog-signal inputs are internally multiplexed.", 13 REF- (in) "Negative reference voltage. The lower reference voltage value (nominally ground) is applied to REF-. This pin is connected to analog ground (GND of the ADC) when internal reference is used.", 14 REF+ (in) "Positive reference voltage The upper reference voltage value (nominally VCC) is applied to REF+. The maximum analog input voltage range is determined by the difference between the voltage applied to terminals REF+ and REF-.", 15 ~{CS} (in) "Chip select. A high-to-low transition on C\S\ resets the internal counters and controls and enables DATA OUT, DATA IN, and I/O CLOCK. A low-to-high transition disables DATA IN and I/O CLOCK within a setup time.", 16 DATA OUT (hiz) "The 3-state serial output for the A/D conversion result. DATA OUT is in the high-impedance state when C\S\ is high and active when C\S\ is low. With a valid C\S\, DATA OUT is removed from the high-impedance state and is (See Datasheet)", 17 DATA IN (in) "Serial data input. The 4-bit serial data can be used as address selects the desired analog input channel or test voltage to be converted next, or a command to activate other other features. The input data is presented with (See Datasheet)", 18 I/O CLOCK (in) "Input /output clock. I/O CLOCK receives the serial input and performs the following four functions:", 19 EOC (out) "Status output, used to indicate the end of conversion (EOC) to the host processor. EOC goes from a high to a low logic level after the falling edge of the last I/O CLOCK and remains low until the conversion is complete and (See Datasheet)", 20 VCC (power) "Positive supply voltage"